# Altium integrated library MemorySockets.IntLib: 2 symbols
Pins are listed as number, name and electrical type; pins without a type are passive.

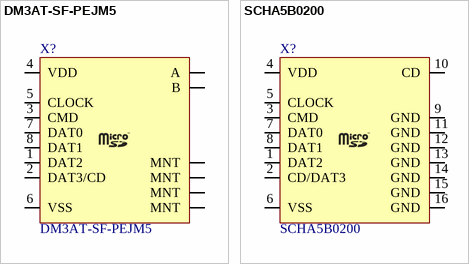
[diagram p0: symbols DM3AT-SF-PEJM5 to SCHA5B0200]

## DM3AT-SF-PEJM5
designator X?
CONN MICRO SD CARD PUSH-PUSH R/A; Manufacturer: Hirose Electric Co Ltd; Card Type: Secure Digital - microSD™; Number of Positions: 10 (8 + 2); Connector Type: Connector and Ejector; Insertion, Removal Method: Push In, Push Out; Populated: Yes; Supplier 1: Digi-Key; Supplier Part Number 1: HR1964CT-ND; Manufacturer Part Number: DM3AT-SF-PEJM5; RoHS: RoHS Compliant; Category: Connectors, Interconnects; Stock 1: 35209; Pricing 1: 1=2.83, 10=2.72, 25=2.4932, 50=2.3798, 100=2.2664, 250=1.98312, 500=1.92648 (USD); Packaging: Cut Tape (CT); Ejector Side: -; Mounting Type: Surface Mount, Right Angle; Features: Switch; Height Above Board: 0.066" (1.68mm); Mounting Feature: Normal, Standard - Top; Contact Finish: Gold; Contact Finish Thickness: -; ComponentLink1URL: https://www.hirose.com/product/en/download_file/key_name/DM3/category/Catalog/doc_file_id/49662/?file_category_id=4&item_id=195&is_series=1; ComponentLink1Description: https://www.hirose.com/product/en/download_file/key_name/DM3/category/Catalog/doc_file_id/49662/?file_category_id=4&item_id=195&is_series=1; Value: DM3AT-SF-PEJM5
footprint DM3AT-SF-PEJM5
pins: 1 DAT2, 2 DAT3/CD, 3 CMD, 4 VDD, 5 CLOCK, 6 VSS, 7 DAT0, 8 DAT1, A, B, MOUNT0 MNT, MOUNT1 MNT, MOUNT2 MNT, MOUNT3 MNT

## SCHA5B0200
designator X?
Memory Card Connectors microSD Rev Mount Push-push w/Switch; Manufacturer: ALPS; Number of Contacts: 8; Voltage Rating: 500 VAC; Mating Cycles: 10 k; Supplier 1: Mouser; Supplier Part Number 1: 688-SCHA5B0200; Manufacturer Part Number: SCHA5B0200; RoHS: RoHS Compliant; Category: Memory Card Connectors; Stock 1: 13775; Pricing 1: 1=1.20, 25=1.08, 50=1.00, 100=0.972, 500=0.907, 1000=0.874, 1500=0.842, 4500=0.789, 9000=0.769 (USD); Height: 15.25 mm; Length: 13.825 mm; Mounting Type: Reverse; Number of Rows: 1 Row; Orientation: Horizontal; Packaging: Reel; Product: Card Connectors; Termination Style: SMD; Brand: ALPS; Mounting Style: -; Card Type: microSD; Insertion - Extraction Style: Push-Push; Standard Pack Qty: 1500; RoHS - Mouser: Y; Minimum Order Quantity: 1; Reeling: True; ComponentLink1URL: http://www.mouser.com/ds/2/15/SCHA-186221.pdf; ComponentLink1Description: http://www.mouser.com/ds/2/15/SCHA-186221.pdf; Value: SCHA5B0200
footprint SD-MICRO-SCHA5B0300
pins: 1 DAT2, 2 CD/DAT3, 3 CMD, 4 VDD (power), 5 CLOCK, 6 VSS (power), 7 DAT0, 8 DAT1, 9 GND (power), 10 CD, 11 GND (power), 12 GND (power), 13 GND, 14 GND, 15 GND, 16 GND